# EAGLE library part MSP430F233TPM (library parts_library)
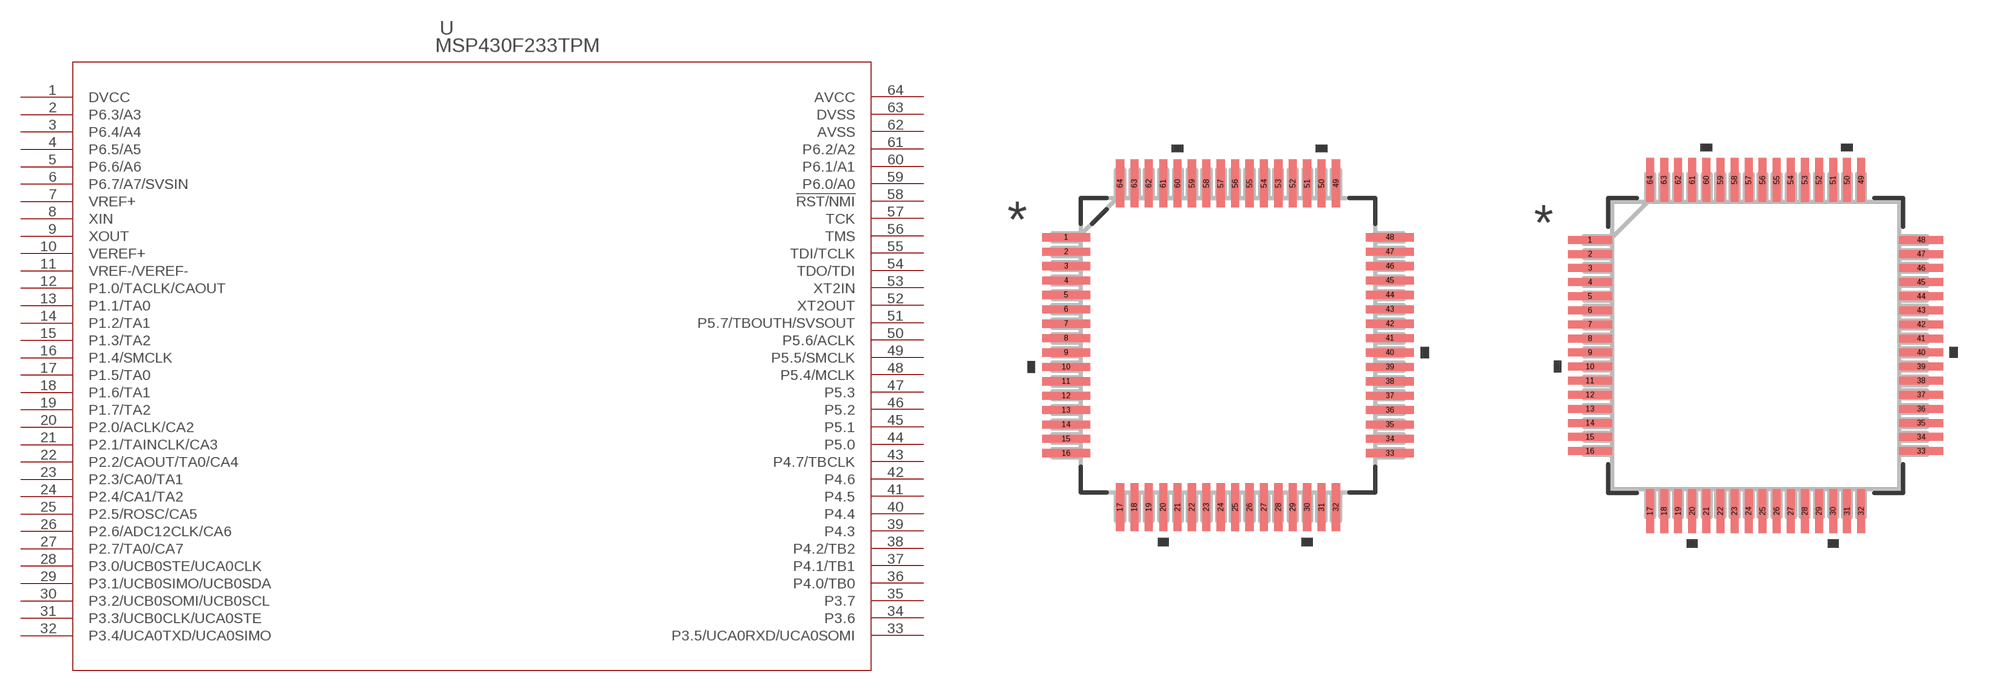
[diagram p1: symbol with the pads of PM64; footprints PM64, PM64-M]

Designator prefix U

## MSP430F233TPM (COPYRIGHT: Copyright (C) 2025 Ultra Librarian. All rights reserved.; MANUFACTURER_PART_NUMBER: MSP430F233TPM; MFR_NAME: Texas Instruments)  [PM64]
1  DVCC  pwr
2  P6.3/A3  pas
3  P6.4/A4  pas
4  P6.5/A5  pas
5  P6.6/A6  pas
6  P6.7/A7/SVSIN  pas
7  VREF+  pwr
8  XIN  in
9  XOUT  out
10  VEREF+  pwr
11  VREF-/VEREF-  pwr
12  P1.0/TACLK/CAOUT  pas
13  P1.1/TA0  pas
14  P1.2/TA1  pas
15  P1.3/TA2  pas
16  P1.4/SMCLK  pas
17  P1.5/TA0  pas
18  P1.6/TA1  pas
19  P1.7/TA2  pas
20  P2.0/ACLK/CA2  pas
21  P2.1/TAINCLK/CA3  pas
22  P2.2/CAOUT/TA0/CA4  pas
23  P2.3/CA0/TA1  pas
24  P2.4/CA1/TA2  pas
25  P2.5/ROSC/CA5  pas
26  P2.6/ADC12CLK/CA6  pas
27  P2.7/TA0/CA7  pas
28  P3.0/UCB0STE/UCA0CLK  pas
29  P3.1/UCB0SIMO/UCB0SDA  pas
30  P3.2/UCB0SOMI/UCB0SCL  pas
31  P3.3/UCB0CLK/UCA0STE  pas
32  P3.4/UCA0TXD/UCA0SIMO  pas
33  P3.5/UCA0RXD/UCA0SOMI  pas
34  P3.6  pas
35  P3.7  pas
36  P4.0/TB0  pas
37  P4.1/TB1  pas
38  P4.2/TB2  pas
39  P4.3  pas
40  P4.4  pas
41  P4.5  pas
42  P4.6  pas
43  P4.7/TBCLK  pas
44  P5.0  pas
45  P5.1  pas
46  P5.2  pas
47  P5.3  pas
48  P5.4/MCLK  pas
49  P5.5/SMCLK  pas
50  P5.6/ACLK  pas
51  P5.7/TBOUTH/SVSOUT  pas
52  XT2OUT  out
53  XT2IN  in
54  TDO/TDI  pas
55  TDI/TCLK  pas
56  TMS  in
57  TCK  in
58  !RST/NMI  pas
59  P6.0/A0  pas
60  P6.1/A1  pas
61  P6.2/A2  pas
62  AVSS  pwr
63  DVSS  pwr
64  AVCC  pwr

## MSP430F233TPMPM64-M (COPYRIGHT: Copyright (C) 2025 Ultra Librarian. All rights reserved.; MANUFACTURER_PART_NUMBER: MSP430F233TPM; MFR_NAME: Texas Instruments)  [PM64-M]
Pads as for PM64

## MSP430F233TPMPM64-L (COPYRIGHT: Copyright (C) 2025 Ultra Librarian. All rights reserved.; MANUFACTURER_PART_NUMBER: MSP430F233TPM; MFR_NAME: Texas Instruments)  [PM64-L]
Pads as for PM64

## Footprint PM64 (pad centres in mm)
smd 1.664 x 0.279: 1 -5.62,3.75; 2 -5.62,3.25; 3 -5.62,2.75; 4 -5.62,2.25; 5 -5.62,1.75; 6 -5.62,1.25; 7 -5.62,0.75; 8 -5.62,0.25; 9 -5.62,-0.25; 10 -5.62,-0.75; 11 -5.62,-1.25; 12 -5.62,-1.75; 13 -5.62,-2.25; 14 -5.62,-2.75; 15 -5.62,-3.25; 16 -5.62,-3.75; 33 5.62,-3.75; 34 5.62,-3.25; 35 5.62,-2.75; 36 5.62,-2.25; 37 5.62,-1.75; 38 5.62,-1.25; 39 5.62,-0.75; 40 5.62,-0.25; 41 5.62,0.25; 42 5.62,0.75; 43 5.62,1.25; 44 5.62,1.75; 45 5.62,2.25; 46 5.62,2.75; 47 5.62,3.25; 48 5.62,3.75
smd 0.279 x 1.664: 17 -3.75,-5.62; 18 -3.25,-5.62; 19 -2.75,-5.62; 20 -2.25,-5.62; 21 -1.75,-5.62; 22 -1.25,-5.62; 23 -0.75,-5.62; 24 -0.25,-5.62; 25 0.25,-5.62; 26 0.75,-5.62; 27 1.25,-5.62; 28 1.75,-5.62; 29 2.25,-5.62; 30 2.75,-5.62; 31 3.25,-5.62; 32 3.75,-5.62; 49 3.75,5.62; 50 3.25,5.62; 51 2.75,5.62; 52 2.25,5.62; 53 1.75,5.62; 54 1.25,5.62; 55 0.75,5.62; 56 0.25,5.62; 57 -0.25,5.62; 58 -0.75,5.62; 59 -1.25,5.62; 60 -1.75,5.62; 61 -2.25,5.62; 62 -2.75,5.62; 63 -3.25,5.62; 64 -3.75,5.62

## Footprint PM64-M (pad centres in mm)
smd 1.549 x 0.279: 1 -5.88,3.75; 2 -5.88,3.25; 3 -5.88,2.75; 4 -5.88,2.25; 5 -5.88,1.75; 6 -5.88,1.25; 7 -5.88,0.75; 8 -5.88,0.25; 9 -5.88,-0.25; 10 -5.88,-0.75; 11 -5.88,-1.25; 12 -5.88,-1.75; 13 -5.88,-2.25; 14 -5.88,-2.75; 15 -5.88,-3.25; 16 -5.88,-3.75; 33 5.88,-3.75; 34 5.88,-3.25; 35 5.88,-2.75; 36 5.88,-2.25; 37 5.88,-1.75; 38 5.88,-1.25; 39 5.88,-0.75; 40 5.88,-0.25; 41 5.88,0.25; 42 5.88,0.75; 43 5.88,1.25; 44 5.88,1.75; 45 5.88,2.25; 46 5.88,2.75; 47 5.88,3.25; 48 5.88,3.75
smd 0.279 x 1.549: 17 -3.75,-5.88; 18 -3.25,-5.88; 19 -2.75,-5.88; 20 -2.25,-5.88; 21 -1.75,-5.88; 22 -1.25,-5.88; 23 -0.75,-5.88; 24 -0.25,-5.88; 25 0.25,-5.88; 26 0.75,-5.88; 27 1.25,-5.88; 28 1.75,-5.88; 29 2.25,-5.88; 30 2.75,-5.88; 31 3.25,-5.88; 32 3.75,-5.88; 49 3.75,5.88; 50 3.25,5.88; 51 2.75,5.88; 52 2.25,5.88; 53 1.75,5.88; 54 1.25,5.88; 55 0.75,5.88; 56 0.25,5.88; 57 -0.25,5.88; 58 -0.75,5.88; 59 -1.25,5.88; 60 -1.75,5.88; 61 -2.25,5.88; 62 -2.75,5.88; 63 -3.25,5.88; 64 -3.75,5.88

## Footprint PM64-L (pad centres in mm)
smd 1.143 x 0.229: 1 -5.677,3.75; 2 -5.677,3.25; 3 -5.677,2.75; 4 -5.677,2.25; 5 -5.677,1.75; 6 -5.677,1.25; 7 -5.677,0.75; 8 -5.677,0.25; 9 -5.677,-0.25; 10 -5.677,-0.75; 11 -5.677,-1.25; 12 -5.677,-1.75; 13 -5.677,-2.25; 14 -5.677,-2.75; 15 -5.677,-3.25; 16 -5.677,-3.75; 33 5.677,-3.75; 34 5.677,-3.25; 35 5.677,-2.75; 36 5.677,-2.25; 37 5.677,-1.75; 38 5.677,-1.25; 39 5.677,-0.75; 40 5.677,-0.25; 41 5.677,0.25; 42 5.677,0.75; 43 5.677,1.25; 44 5.677,1.75; 45 5.677,2.25; 46 5.677,2.75; 47 5.677,3.25; 48 5.677,3.75
smd 0.229 x 1.143: 17 -3.75,-5.677; 18 -3.25,-5.677; 19 -2.75,-5.677; 20 -2.25,-5.677; 21 -1.75,-5.677; 22 -1.25,-5.677; 23 -0.75,-5.677; 24 -0.25,-5.677; 25 0.25,-5.677; 26 0.75,-5.677; 27 1.25,-5.677; 28 1.75,-5.677; 29 2.25,-5.677; 30 2.75,-5.677; 31 3.25,-5.677; 32 3.75,-5.677; 49 3.75,5.677; 50 3.25,5.677; 51 2.75,5.677; 52 2.25,5.677; 53 1.75,5.677; 54 1.25,5.677; 55 0.75,5.677; 56 0.25,5.677; 57 -0.25,5.677; 58 -0.75,5.677; 59 -1.25,5.677; 60 -1.75,5.677; 61 -2.25,5.677; 62 -2.75,5.677; 63 -3.25,5.677; 64 -3.75,5.677